# EAGLE library part BUS-MIXER-V1.3 (library XM8)
Pre filter source/fx mixer 6 channel input / two bus output + 2 fx in/out with separate wet/dry amps for both busses and filter chain input (NB: Inverted)
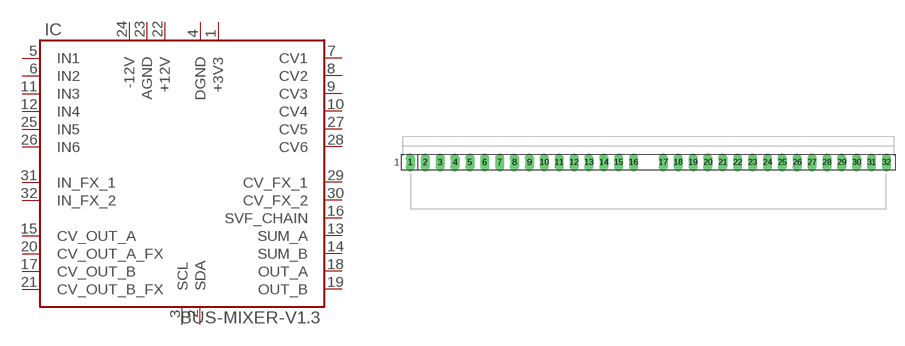
[diagram p34: symbol with the pads of XM8-BUX-MIX-V1.3V; footprint XM8-BUX-MIX-V1.3V]

Designator prefix IC

## BUS-MIXER-V1.3  [XM8-BUX-MIX-V1.3V]
1  +3V3  pwr
2  SDA
3  SCL
4  DGND  pwr
5  IN1
6  IN2
7  CV1
8  CV2
9  CV3
10  CV4
11  IN3
12  IN4  in
13  SUM_A
14  SUM_B
15  CV_OUT_A
16  SVF_CHAIN
17  CV_OUT_B
18  OUT_A
19  OUT_B
20  CV_OUT_A_FX
21  CV_OUT_B_FX
22  +12V  pwr
23  AGND  pwr
24  -12V  pwr
25  IN5
26  IN6
27  CV5
28  CV6
29  CV_FX_1
30  CV_FX_2
31  IN_FX_1
32  IN_FX_2

## Footprint XM8-BUX-MIX-V1.3V (pad centres in mm)
Xonik pre filter bus mixer, DG412 version with filter chain feedback
drill 1.016 long: 1 -40.64,0; 2 -38.1,0; 3 -35.56,0; 4 -33.02,0; 5 -30.48,0; 6 -27.94,0; 7 -25.4,0; 8 -22.86,0; 9 -20.32,0; 10 -17.78,0; 11 -15.24,0; 12 -12.7,0; 13 -10.16,0; 14 -7.62,0; 15 -5.08,0; 16 -2.54,0; 17 2.54,0; 18 5.08,0; 19 7.62,0; 20 10.16,0; 21 12.7,0; 22 15.24,0; 23 17.78,0; 24 20.32,0; 25 22.86,0; 26 25.4,0; 27 27.94,0; 28 30.48,0; 29 33.02,0; 30 35.56,0; 31 38.1,0; 32 40.64,0